# Altium footprint library Schmeiser Robo.PcbLib: 1 footprints
Each footprint in its own frame and in the unit in brackets; x right, y up, seen from the top. Pads: shape width x height; smd on the part's side, far side on the other; paste and mask are expansions set on the pad; w line width, h text height; cw(c..) or ccw(c..) is an arc to the next point about the centre after c.
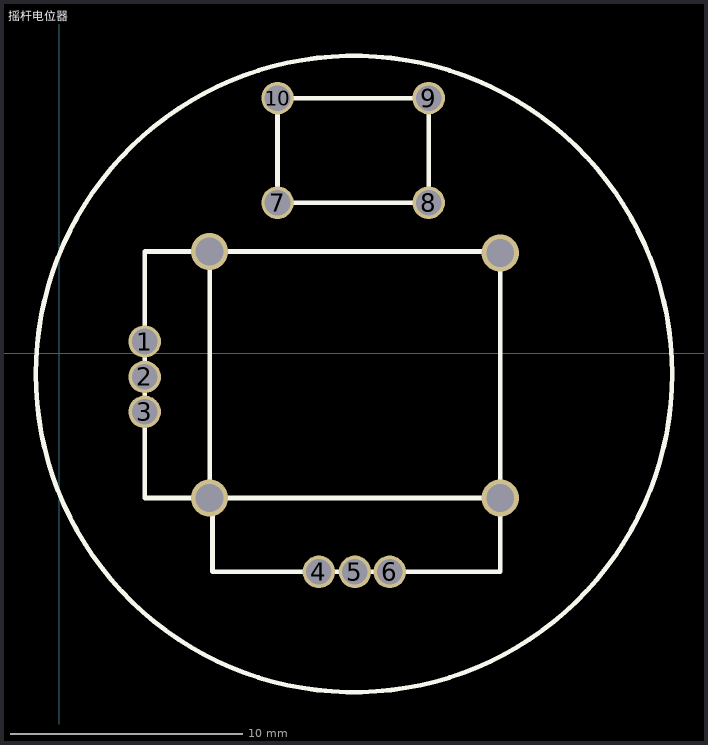
[diagram p0: the footprint, top view; thin cyan lines are the x and y axes]

## 摇杆电位器 [mm]
pads (10):
  round 1.4 hole 1.1: 1(3.683,0.508) 2(3.683,-1.016) 3(3.683,-2.516) 4(11.176,-9.398) 5(12.727,-9.398) 6(14.224,-9.398) 7(9.398,6.477) 8(15.898,6.477) 9(15.898,10.977) 10(9.398,10.977)
via 6.477,4.377 diameter 1.6 hole 1.2
via 6.477,-6.223 diameter 1.6 hole 1.2
via 18.977,-6.223 diameter 1.6 hole 1.2
via 18.977,4.318 diameter 1.6 hole 1.2
Top Overlay:
  circle w0.2: c12.687,-0.889 r13.685
  lines w0.2: 6.477,-6.223 6.604,-6.35 6.604,-9.398 18.977,-9.398 18.977,-6.223 ; 6.477,-6.223 3.683,-6.223 3.683,4.377 6.477,4.377 ; 6.477,-6.223 6.477,4.377 ; 6.477,-6.223 18.977,-6.223 ; 6.477,4.377 18.918,4.377 18.977,4.318 18.977,-6.223 ; 9.398,6.477 9.398,10.977 15.898,10.977 15.898,6.477 9.398,6.477